# EAGLE library part NAL (library EW_Electro_Mechanical)
RELAY
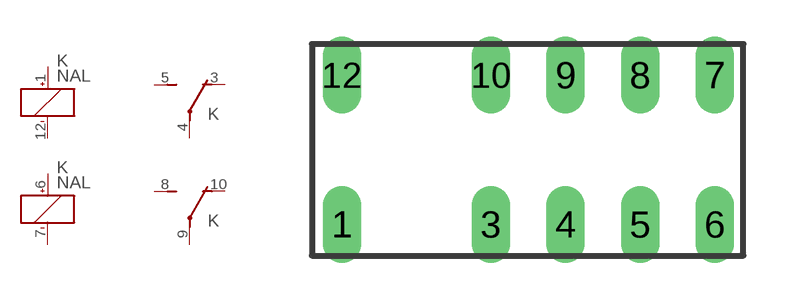
[diagram p103: symbol with the pads of NAL; footprint NAL]

Designator prefix K; gates 1=K+--26 2=K+--26 3=U-85 4=U-85

## NAL (OC_FARNELL: unknown; OC_NEWARK: unknown)  [NAL]
1  1:+  pas
3  3:O  pas
4  3:P  pas
5  3:S  pas
6  2:+  pas
7  2:-  pas
8  4:S  pas
9  4:P  pas
10  4:O  pas
12  1:-  pas

## Footprint NAL (pad centres in mm)
RELAY dummy long
drill 0.8 long: 1 -6.35,-2.54; 3 -1.27,-2.54; 4 1.27,-2.54; 5 3.81,-2.54; 6 6.35,-2.54; 7 6.35,2.54; 8 3.81,2.54; 9 1.27,2.54; 10 -1.27,2.54; 12 -6.35,2.54